# EAGLE library part IDC_RECEPTACLE_2X20 (library marionette)
IDC keyed, shrouded Receptacles 40 pin, Sullins SBH11-PBPC-D20-ST-BK
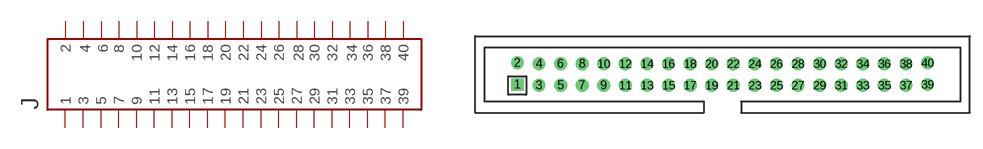
[diagram p8: symbol with the pads of IDC_RECEPTACLES; footprint IDC_RECEPTACLES]

Designator prefix J

## IDC_RECEPTACLE_2X20-S9175-ND  [IDC_RECEPTACLES]
1  1
2  2
3  3
4  4
5  5
6  6
7  7
8  8
9  9
10  10
11  11
12  12
13  13
14  14
15  15
16  16
17  17
18  18
19  19
20  20
21  21
22  22
23  23
24  24
25  25
26  26
27  27
28  28
29  29
30  30
31  31
32  32
33  33
34  34
35  35
36  36
37  37
38  38
39  39
40  40

## Footprint IDC_RECEPTACLES (pad centres in mm)
40 pin, 0.1" keyed, shrouded male header, based on Sullins SBH11-PBPC-D20-ST-BK, Digikey No. S9175-ND
drill 1 square: 1 -24.13,-1.17
drill 1: 2 -24.13,1.37; 3 -21.59,-1.27; 4 -21.59,1.27; 5 -19.05,-1.27; 6 -19.05,1.27; 7 -16.51,-1.27; 8 -16.51,1.27; 9 -13.97,-1.27; 10 -13.97,1.27; 11 -11.43,-1.27; 12 -11.43,1.27; 13 -8.89,-1.27; 14 -8.89,1.27; 15 -6.35,-1.27; 16 -6.35,1.27; 17 -3.81,-1.27; 18 -3.81,1.27; 19 -1.27,-1.27; 20 -1.27,1.27; 21 1.27,-1.27; 22 1.27,1.27; 23 3.81,-1.27; 24 3.81,1.27; 25 6.35,-1.27; 26 6.35,1.27; 27 8.89,-1.27; 28 8.89,1.27; 29 11.43,-1.27; 30 11.43,1.27; 31 13.97,-1.27; 32 13.97,1.27; 33 16.51,-1.27; 34 16.51,1.27; 35 19.05,-1.27; 36 19.05,1.27; 37 21.59,-1.27; 38 21.59,1.27; 39 24.13,-1.17; 40 24.13,1.37